# Altium footprint library 118250271.PcbLib: 1 footprints
Each footprint in its own frame and in the unit in brackets; x right, y up, seen from the top. Pads: shape width x height; smd on the part's side, far side on the other; paste and mask are expansions set on the pad; w line width, h text height; cw(c..) or ccw(c..) is an arc to the next point about the centre after c.
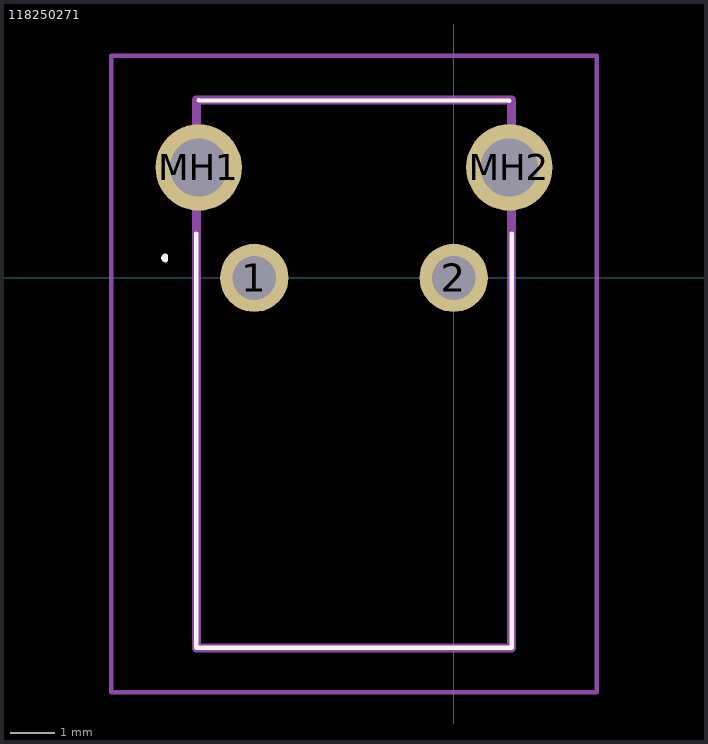
[diagram p0: the footprint, top view; thin cyan lines are the x and y axes]

## 118250271 [mm]
pads (4):
  round 1.54 hole 0.99: 1(-4.5,0) 2(0,0)
  round 1.95 hole 1.3: MH1(-5.755,2.49) MH2(1.255,2.49)
Top Overlay:
  lines w0.1: -5.805,1 -5.805,-8.35 1.305,-8.35 1.305,1 ; -5.755,4.01 1.255,4 ; -6.5,0.4 cw(c-6.5,0.45) -6.5,0.5 -6.5,0.4
Mechanical 15:
  lines w0.2: -5.805,-8.35 -5.805,4.01 1.305,4.01 1.305,-8.35 -5.805,-8.35
Mechanical 20:
  lines w0.1: -7.73,-9.35 -7.73,5.01 3.23,5.01 3.23,-9.35 -7.73,-9.35
3D body "1-1825027-1.stp": height 7.08, standoff -3.44, extent -6.551,-8.397 2.135,4.148